# EAGLE library part JTOS-XX (library ic)
JTOS-xx: Voltage-controlled oscillator (Mini-Circuits) Usable for all SMD VCOs with BK377 case, e.g., JTOS-200
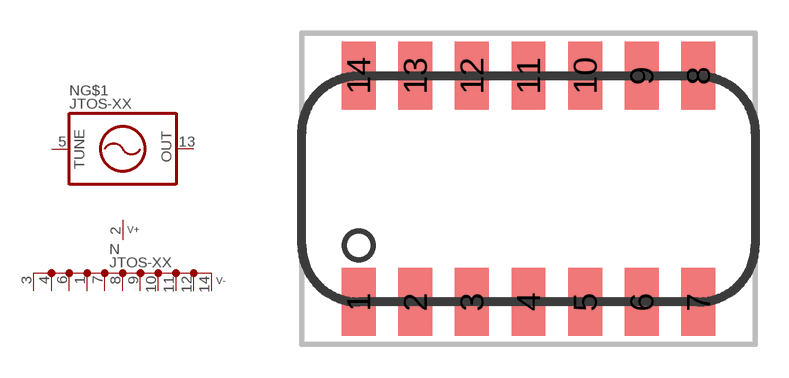
[diagram p49: symbol with the pads of MC-BK276; footprint MC-BK276]

Designator prefix N; gates P=V+11- G$1=VCO01

## JTOS-XX  [MC-BK276]
1  P:V-A4  pwr
2  P:V+  pwr
3  P:V-  pwr
4  P:V-  pwr
5  G$1:TUNE  in
6  P:V-  pwr
7  P:V-  pwr
8  P:V-  pwr
9  P:V-  pwr
10  P:V-  pwr
11  P:V-  pwr
12  P:V-  pwr
13  G$1:OUT  out
14  P:V-  pwr

## Footprint MC-BK276 (pad centres in mm)
Mini-Circuits BK276 SMD Metal case (20*10mm), 14 pins
smd 1.524 x 3.048: 1 -7.62,-5.08; 2 -5.08,-5.08; 3 -2.54,-5.08; 4 0,-5.08; 5 2.54,-5.08; 6 5.08,-5.08; 7 7.62,-5.08; 8 7.62,5.08; 9 5.08,5.08; 10 2.54,5.08; 11 0,5.08; 12 -2.54,5.08; 13 -5.08,5.08; 14 -7.62,5.08